# Altium footprint library KUOZHAN.PcbLib: 64 footprints (part 1 of 4)
Each footprint in its own frame and in the unit in brackets; x right, y up, seen from the top. Pads: shape width x height; smd on the part's side, far side on the other; paste and mask are expansions set on the pad; w line width, h text height; cw(c..) or ccw(c..) is an arc to the next point about the centre after c.
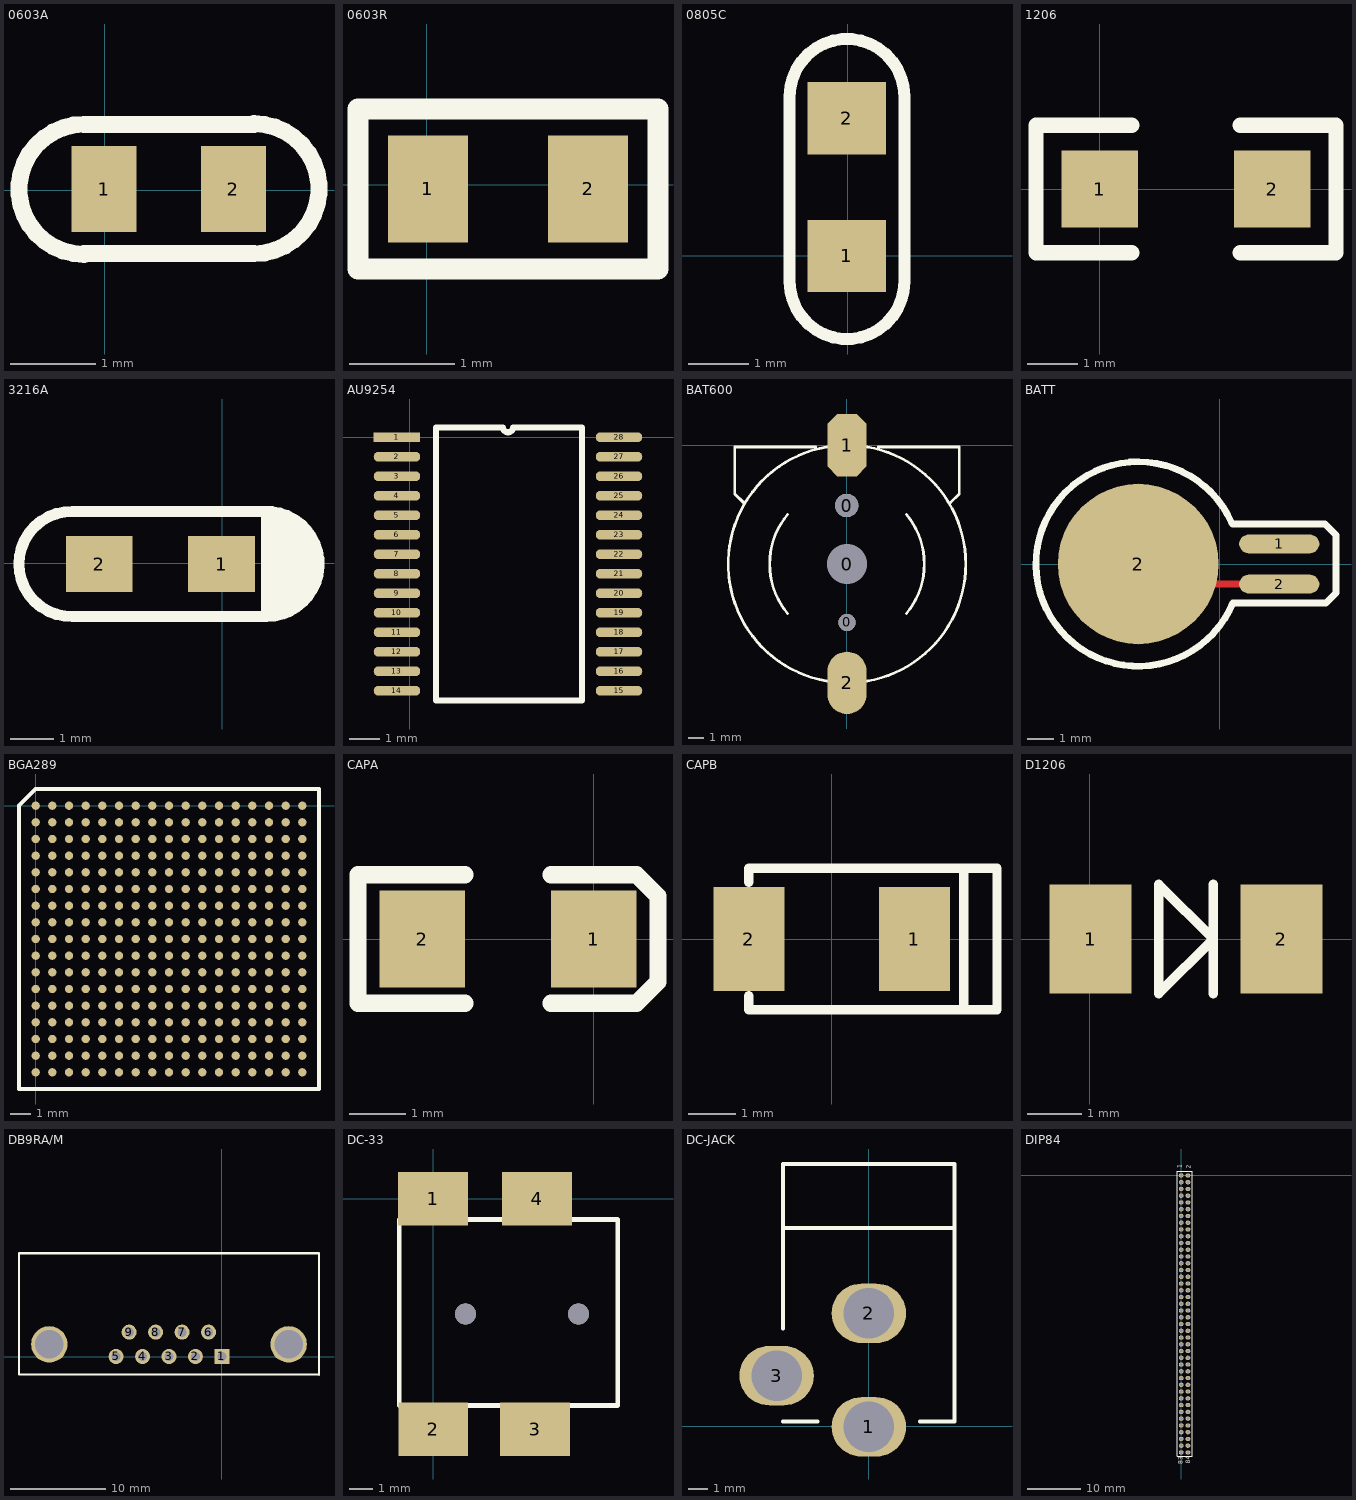
[diagram p0: the footprints below, top view; thin cyan lines are the x and y axes]

## 0603A [mil]
pads (2):
  rect 30x40 smd: 1(-0.39,0.65) 2(59.61,0.65)
TopOverlay:
  lines w7.87: -9.64,-29.63 cw(c-9.64,0.51) -9.64,30.65 69.1,30.65 ; -9.64,-29.35 69.1,-29.35 ccw(c69.1,0.8) 69.1,30.94

## 0603R [mil]
pads (2):
  rect 30x40 smd: 1(0.5,-1.59) 2(60.5,-1.59)
TopOverlay:
  lines w7.87: 86.64,-31.63 86.64,28.41 -25.65,28.41 -25.65,-31.59 86.64,-31.59

## 0805C [mm]
pads (2):
  rect 1.3x1.2 smd: 1(-0.019,-0.004) 2(-0.019,2.282)
TopOverlay:
  lines w0.2: -0.966,-0.431 ccw(c-0.016,-0.431) 0.934,-0.431 0.934,2.644 ccw(c-0.016,2.644) -0.966,2.644 -0.966,-0.431

## 1206 [mil]
pads (2):
  rect 60x60 smd: 1(0.21,0.13) 2(135.21,0.13)
TopOverlay:
  lines w12: 25.21,-49.87 -49.79,-49.87 -49.79,50.13 25.21,50.13 ; 110.21,-49.87 185.21,-49.87 185.21,50.13 110.21,50.13

## 3216A [mil]
pads (2):
  rect 60x50 smd: 1(-0.8,-0.83) 2(-110.8,-0.83)
TopOverlay:
  rectangle: 41.52,-41.18 65.14,42.48
  rectangle: 68.1,-10.66 84.83,15.91
  rectangle: 65.15,-32.32 80.9,29.69
  rectangle: 56.29,-37.24 70.07,37.57
  rectangle: 44.48,-44.13 61.21,40.52
  lines w10: -134.66,-48.07 39.55,-48.07 ; -134.67,46.42 38.57,46.42 ; -134.62,-48.07 cw(c-135.64,-0.83) -134.62,46.42 ; 37.31,46.37 cw(c39.55,-0.83) 39.55,-48.07 ; 39.55,44.46 39.55,-48.07

## AU9254 [mm]
pads (28):
  rect 1.55x0.33 smd: 1(-0.425,0)
  oval 1.55x0.33 smd: 2(-0.425,-0.65) 3(-0.425,-1.3) 4(-0.425,-1.95) 5(-0.425,-2.6) 6(-0.425,-3.25) 7(-0.425,-3.9) 8(-0.425,-4.55) 9(-0.425,-5.2) 10(-0.425,-5.85) 11(-0.425,-6.5) 12(-0.425,-7.15) 13(-0.425,-7.8) 14(-0.425,-8.45) 15(6.975,-8.45) 16(6.975,-7.8) 17(6.975,-7.15) 18(6.975,-6.5) 19(6.975,-5.85) 20(6.975,-5.2) 21(6.975,-4.55) 22(6.975,-3.9) 23(6.975,-3.25) 24(6.975,-2.6) 25(6.975,-1.95) 26(6.975,-1.3) 27(6.975,-0.65) 28(6.975,0)
TopOverlay:
  lines w0.2: 0.875,-8.775 5.75,-8.775 5.75,0.325 3.437,0.325 cw(c3.275,0.325) 3.113,0.325 0.875,0.325 0.875,-8.775

## BAT600 [mm]
pads (5):
  round 1.5 hole 1.5: 0(-0.022,-3.877)
  round 1.1 hole 1.1: 0(0.003,-11.377)
  round 2.54 hole 2.54: 0(0.003,-7.627)
  oct 2.5x4 smd: 1(0.003,-0.007)
  oval 2.5x4 smd: 2(0.003,-15.247)
TopOverlay:
  lines w0.178: -6.622,-3.702 -7.197,-3.127 -7.197,-0.127 -1.997,-0.127 ; -3.809,-10.799 cw(c0.003,-7.627) -3.807,-4.452 ; -0.83,-15.201 cw(c0.003,-7.627) -0.83,-0.052 ; 0.836,-15.201 ccw(c0.003,-7.627) 7.623,-7.627 ccw(c0.003,-7.627) 0.836,-0.052 ; 2.003,-0.127 7.203,-0.127 7.203,-3.127 6.603,-3.727 ; 3.815,-10.799 ccw(c0.003,-7.627) 3.818,-4.457

## BATT [mm]
pads (3):
  oval 3x0.7 smd: 1(2.223,0.75) 2(2.223,-0.75)
  round 6 smd: 2(-3.048,0)
TopLayer:
  lines w0.254: -1.785,-0.75 2.223,-0.75
TopOverlay:
  lines w0.254: 0.443,1.552 ccw(c-3.048,0) 0.482,-1.461 3.969,-1.461 4.344,-1.086 4.344,1.086 3.936,1.494 0.48,1.494

## BGA289 [mm]
pads (289):
  round 0.4 smd: A1(-0.003,0.009) A2(0.797,0.009) A3(1.597,0.009) A4(2.397,0.009) A5(3.197,0.009) A6(3.997,0.009) A7(4.797,0.009) A8(5.597,0.009) A9(6.397,0.009) A10(7.197,0.009) A11(7.997,0.009) A12(8.797,0.009) A13(9.597,0.009) A14(10.397,0.009) A15(11.197,0.009) A16(11.997,0.009) A17(12.797,0.009) B1(-0.003,-0.791) B2(0.797,-0.791) B3(1.597,-0.791) B4(2.397,-0.791) B5(3.197,-0.791) B6(3.997,-0.791) B7(4.797,-0.791) B8(5.597,-0.791) B9(6.397,-0.791) B10(7.197,-0.791) B11(7.997,-0.791) B12(8.797,-0.791) B13(9.597,-0.791) B14(10.397,-0.791) B15(11.197,-0.791) B16(11.997,-0.791) B17(12.797,-0.791) C1(-0.003,-1.591) C2(0.797,-1.591) C3(1.597,-1.591) C4(2.397,-1.591) C5(3.197,-1.591) C6(3.997,-1.591) C7(4.797,-1.591) C8(5.597,-1.591) C9(6.397,-1.591) C10(7.197,-1.591) C11(7.997,-1.591) C12(8.797,-1.591) C13(9.597,-1.591) C14(10.397,-1.591) C15(11.197,-1.591) C16(11.997,-1.591) C17(12.797,-1.591) D1(-0.003,-2.391) D2(0.797,-2.391) D3(1.597,-2.391) D4(2.397,-2.391) D5(3.197,-2.391) D6(3.997,-2.391) D7(4.797,-2.391) D8(5.597,-2.391) D9(6.397,-2.391) D10(7.197,-2.391) D11(7.997,-2.391) D12(8.797,-2.391) D13(9.597,-2.391) D14(10.397,-2.391) D15(11.197,-2.391) D16(11.997,-2.391) D17(12.797,-2.391) E1(-0.003,-3.191) E2(0.797,-3.191) E3(1.597,-3.191) E4(2.397,-3.191) E5(3.197,-3.191) E6(3.997,-3.191) E7(4.797,-3.191) E8(5.597,-3.191) E9(6.397,-3.191) E10(7.197,-3.191) E11(7.997,-3.191) E12(8.797,-3.191) E13(9.597,-3.191) E14(10.397,-3.191) E15(11.197,-3.191) E16(11.997,-3.191) E17(12.797,-3.191) F1(-0.003,-3.991) F2(0.797,-3.991) F3(1.597,-3.991) F4(2.397,-3.991) F5(3.197,-3.991) F6(3.997,-3.991) F7(4.797,-3.991) F8(5.597,-3.991) F9(6.397,-3.991) F10(7.197,-3.991) F11(7.997,-3.991) F12(8.797,-3.991) F13(9.597,-3.991) F14(10.397,-3.991) F15(11.197,-3.991) F16(11.997,-3.991) F17(12.797,-3.991) G1(-0.003,-4.791) G2(0.797,-4.791) G3(1.597,-4.791) G4(2.397,-4.791) G5(3.197,-4.791) G6(3.997,-4.791) G7(4.797,-4.791) G8(5.597,-4.791) G9(6.397,-4.791) G10(7.197,-4.791) G11(7.997,-4.791) G12(8.797,-4.791) G13(9.597,-4.791) G14(10.397,-4.791) G15(11.197,-4.791) G16(11.997,-4.791) G17(12.797,-4.791) H1(-0.003,-5.591) H2(0.797,-5.591) H3(1.597,-5.591) H4(2.397,-5.591) H5(3.197,-5.591) H6(3.997,-5.591) H7(4.797,-5.591) H8(5.597,-5.591) H9(6.397,-5.591) H10(7.197,-5.591) H11(7.997,-5.591) H12(8.797,-5.591) H13(9.597,-5.591) H14(10.397,-5.591) H15(11.197,-5.591) H16(11.997,-5.591) H17(12.797,-5.591) J1(-0.003,-6.391) J2(0.797,-6.391) J3(1.597,-6.391) J4(2.397,-6.391) J5(3.197,-6.391) J6(3.997,-6.391) J7(4.797,-6.391) J8(5.597,-6.391) J9(6.397,-6.391) J10(7.197,-6.391) J11(7.997,-6.391) J12(8.797,-6.391) J13(9.597,-6.391) J14(10.397,-6.391) J15(11.197,-6.391) J16(11.997,-6.391) J17(12.797,-6.391) K1(-0.003,-7.191) K2(0.797,-7.191) K3(1.597,-7.191) K4(2.397,-7.191) K5(3.197,-7.191) K6(3.997,-7.191) K7(4.797,-7.191) K8(5.597,-7.191) K9(6.397,-7.191) K10(7.197,-7.191) K11(7.997,-7.191) K12(8.797,-7.191) K13(9.597,-7.191) K14(10.397,-7.191) K15(11.197,-7.191) K16(11.997,-7.191) K17(12.797,-7.191) L1(-0.003,-7.991) L2(0.797,-7.991) L3(1.597,-7.991) L4(2.397,-7.991) L5(3.197,-7.991) L6(3.997,-7.991) L7(4.797,-7.991) L8(5.597,-7.991) L9(6.397,-7.991) L10(7.197,-7.991) L11(7.997,-7.991) L12(8.797,-7.991) L13(9.597,-7.991) L14(10.397,-7.991) L15(11.197,-7.991) L16(11.997,-7.991) L17(12.797,-7.991) M1(-0.003,-8.791) M2(0.797,-8.791) M3(1.597,-8.791) M4(2.397,-8.791) M5(3.197,-8.791) M6(3.997,-8.791) M7(4.797,-8.791) M8(5.597,-8.791) M9(6.397,-8.791) M10(7.197,-8.791) M11(7.997,-8.791) M12(8.797,-8.791) M13(9.597,-8.791) M14(10.397,-8.791) M15(11.197,-8.791) M16(11.997,-8.791) M17(12.797,-8.791) N1(-0.003,-9.591) N2(0.797,-9.591) N3(1.597,-9.591) N4(2.397,-9.591) N5(3.197,-9.591) N6(3.997,-9.591) N7(4.797,-9.591) N8(5.597,-9.591) N9(6.397,-9.591) N10(7.197,-9.591) N11(7.997,-9.591) N12(8.797,-9.591) N13(9.597,-9.591) N14(10.397,-9.591) N15(11.197,-9.591) N16(11.997,-9.591) N17(12.797,-9.591) P1(-0.003,-10.391) P2(0.797,-10.391) P3(1.597,-10.391) P4(2.397,-10.391) P5(3.197,-10.391) P6(3.997,-10.391) P7(4.797,-10.391) P8(5.597,-10.391) P9(6.397,-10.391) P10(7.197,-10.391) P11(7.997,-10.391) P12(8.797,-10.391) P13(9.597,-10.391) P14(10.397,-10.391) P15(11.197,-10.391) P16(11.997,-10.391) P17(12.797,-10.391) R1(-0.003,-11.191) R2(0.797,-11.191) R3(1.597,-11.191) R4(2.397,-11.191) R5(3.197,-11.191) R6(3.997,-11.191) R7(4.797,-11.191) R8(5.597,-11.191) R9(6.397,-11.191) R10(7.197,-11.191) R11(7.997,-11.191) R12(8.797,-11.191) R13(9.597,-11.191) R14(10.397,-11.191) R15(11.197,-11.191) R16(11.997,-11.191) R17(12.797,-11.191) T1(-0.003,-11.991) T2(0.797,-11.991) T3(1.597,-11.991) T4(2.397,-11.991) T5(3.197,-11.991) T6(3.997,-11.991) T7(4.797,-11.991) T8(5.597,-11.991) T9(6.397,-11.991) T10(7.197,-11.991) T11(7.997,-11.991) T12(8.797,-11.991) T13(9.597,-11.991) T14(10.397,-11.991) T15(11.197,-11.991) T16(11.997,-11.991) T17(12.797,-11.991) U1(-0.003,-12.791) U2(0.797,-12.791) U3(1.597,-12.791) U4(2.397,-12.791) U5(3.197,-12.791) U6(3.997,-12.791) U7(4.797,-12.791) U8(5.597,-12.791) U9(6.397,-12.791) U10(7.197,-12.791) U11(7.997,-12.791) U12(8.797,-12.791) U13(9.597,-12.791) U14(10.397,-12.791) U15(11.197,-12.791) U16(11.997,-12.791) U17(12.797,-12.791)
TopOverlay:
  lines w0.2: -0.803,-13.591 -0.803,0.009 -0.003,0.809 13.597,0.809 13.597,-13.591 -0.803,-13.591

## CAPA [mil]
pads (2):
  rect 60x68 smd: 1(0,0) 2(-120,0)
TopOverlay:
  lines w12: -90,-45 -165,-45 -165,45 -90,45 ; -30,-45 30,-45 45,-30 45,30 30,45 -30,45

## CAPB [mm]
pads (2):
  rect 1.5x2.2 smd: 1(1.75,0) 2(-1.75,0)
TopOverlay:
  lines w0.2: -1.75,-1.2 -1.75,-1.5 1.75,-1.5 2.8,-1.5 ; -1.75,1.2 -1.75,1.5 1.75,1.5 2.8,1.5 ; 2.8,-1.5 3.5,-1.5 3.5,1.5 2.8,1.5 ; 2.8,-1.5 2.8,1.5

## D1206 [mm]
pads (2):
  rect 1.5x2 smd: 1(0.015,0.001) 2(3.515,0.001)
TopOverlay:
  lines w0.025: 1.265,1.001 1.265,1.001 ; 2.265,0.001 2.265,0.001
  lines w0.178: 2.265,-0.999 2.265,1.001 ; 1.265,-0.999 1.265,1.001 2.265,0.001 1.265,-0.999

## DB9RA/M [mil]
pads (11):
  rect 62x62 hole 38: 1(0.38,0.31)
  round 62 hole 38: 2(-108.62,0.31) 3(-217.62,0.31) 4(-326.62,0.31) 5(-435.62,0.31) 6(-54.62,100.31) 7(-163.62,100.31) 8(-272.62,100.31) 9(-381.62,100.31)
  round 150 hole 118.11: ""(-710.62,50.31) ""(275.38,50.31)
TopOverlay:
  lines w8: -835.62,425.31 -835.62,-74.69 400.38,-74.69
  lines w10: -835.62,425.31 400.38,425.31 400.38,-74.69

## DC-33 [mm]
pads (4):
  rect 3x2.3 smd: 1(0,0) 2(0.013,-9.906) 3(4.39,-9.906) 4(4.478,0)
via 6.254,-4.954 diameter 0.9 hole 0.9
via 1.39,-4.954 diameter 0.9 hole 0.9
TopOverlay:
  lines w0.2: -1.447,-8.89 7.951,-8.89 7.951,-0.889 -1.447,-0.889 -1.447,-8.89

## DC-JACK [mil]
pads (3):
  oval 150x120 hole 102: 1(0.64,-0.65) 2(0.64,228.35) 3(-185.36,102.35)
TopOverlay:
  lines w8: -172.36,10.35 -102.36,10.35 ; -172.36,197.35 -172.36,529.35 173.64,529.35 173.64,10.35 103.64,10.35 ; -172.36,400.35 173.64,400.35

## DIP84 [mm]
pads (84):
  oval 0.9x0.8 hole 0.6: 1(0,-0.001) 2(1.27,-0.001) 3(0,-1.271) 4(1.27,-1.271) 5(0,-2.541) 6(1.27,-2.541) 7(0,-3.811) 8(1.27,-3.811) 9(0,-5.081) 10(1.27,-5.081) 11(0,-6.351) 12(1.27,-6.351) 13(0,-7.621) 14(1.27,-7.621) 15(0,-8.891) 16(1.27,-8.891) 17(0,-10.161) 18(1.27,-10.161) 19(0,-11.431) 20(1.27,-11.431) 21(0,-12.701) 22(1.27,-12.701) 23(0,-13.971) 24(1.27,-13.971) 25(0,-15.241) 26(1.27,-15.241) 27(0,-16.511) 28(1.27,-16.511) 29(0,-17.781) 30(1.27,-17.781) 31(0,-19.051) 32(1.27,-19.051) 33(0,-20.321) 34(1.27,-20.321) 35(0,-21.591) 36(1.27,-21.591) 37(0,-22.861) 38(1.27,-22.861) 39(0,-24.131) 40(1.27,-24.131) 41(0,-25.401) 42(1.27,-25.401) 43(0,-26.671) 44(1.27,-26.671) 45(0,-27.941) 46(1.27,-27.941) 47(0,-29.211) 48(1.27,-29.211) 49(0,-30.481) 50(1.27,-30.481) 51(0,-31.751) 52(1.27,-31.751) 53(0,-33.021) 54(1.27,-33.021) 55(0,-34.291) 56(1.27,-34.291) 57(0,-35.561) 58(1.27,-35.561) 59(0,-36.831) 60(1.27,-36.831) 61(0,-38.101) 62(1.27,-38.101) 63(0,-39.371) 64(1.27,-39.371) 65(0,-40.641) 66(1.27,-40.641) 67(0,-41.911) 68(1.27,-41.911) 69(0,-43.181) 70(1.27,-43.181) 71(0,-44.451) 72(1.27,-44.451) 73(0,-45.721) 74(1.27,-45.721) 75(0,-46.991) 76(1.27,-46.991) 77(0,-48.261) 78(1.27,-48.261) 79(0,-49.531) 80(1.27,-49.531) 81(0,-50.801) 82(1.27,-50.801) 83(0,-52.071) 84(1.27,-52.071)
TopOverlay:
  lines w0.2: -0.75,-52.8 -0.75,0.8 2.05,0.8 2.05,-52.8 -0.75,-52.8
  text "1" at 0.075,1.35 h0.8
  text "2" at 1.75,1.25 h0.8
  text "83" at 0.3,-54.25 h0.8
  text "84" at 1.7,-54.225 h0.8